# EAGLE library part SZNUD3124 (library on-semiconductor)
Automotive Inductive Load Driver (two channel) This micro−integrated part provides a single component solution to switch inductive loads such as relays, solenoids, and small DC motors without the need of a free−wheeling diode. It accepts logic level inputs, thus allowing it to be driven by a large variety of devices including logic gates, inverters, and microcontrollers.
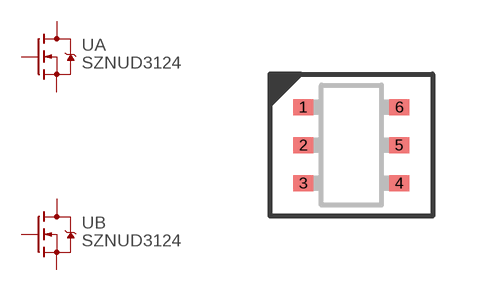
[diagram p5: symbol with the pads of SOT-457; footprint SOT-457]

Designator prefix U; gates A=N-MOSFET B=N-MOSFET

## SZNUD3124  [SOT-457]
1  A:S  pas
2  A:G  pas
3  B:D  pas
4  B:S  pas
5  B:G  pas
6  A:D  pas

## Footprint SOT-457 (pad centres in mm)
smd 0.5 x 0.4: 1 -1.2,0.95; 2 -1.2,0; 3 -1.2,-0.95; 4 1.2,-0.95; 5 1.2,0; 6 1.2,0.95